# Altium integrated library ChargeControl2019.IntLib: 10 symbols
Pins are listed as number, name and electrical type; pins without a type are passive.

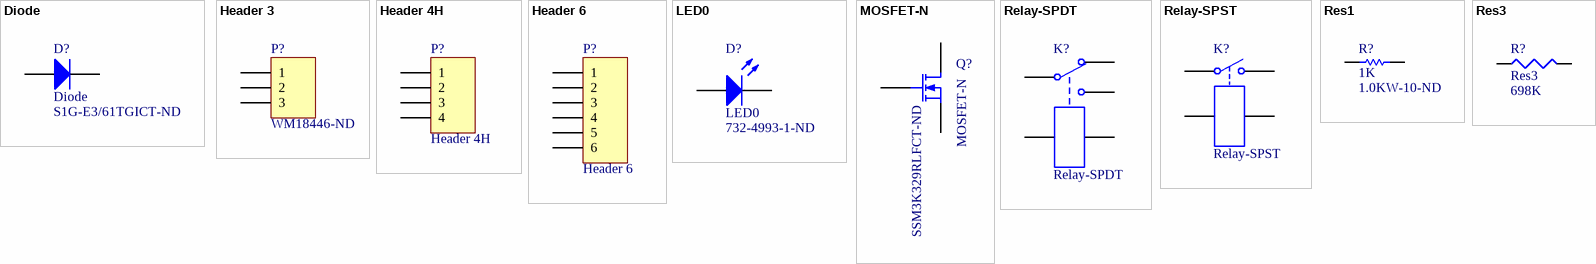
[diagram p0: symbols Diode to Res3]

## Diode
designator D?  Supplier Part Number 1: S1G-E3/61TGICT-ND
Switching diode; Published: 8-Jun-2000; LatestRevisionDate: 17-Jul-2002; LatestRevisionNote: Re-released for DXP Platform.; PackageVersion: Sep-1996; PackageReference: SMC; Publisher: Altium Limited; PackageDescription: DO-214-AB/SMC; 2 C-Bend Leads; Body 7.9 x 5.9 mm, inc. leads (LxW); Code_JEDEC: DO-214-AB; Supplier 1: Digi-Key
footprint DIODE SODFL100X48-2N (SODFL, 2-Leads, Body 0.60x1.00mm, IPC Medium Density 1SS413L3MCT-ND or 1SS413,L3M)
simulation model DIODE (Diode)
signal-integrity model Diode
footprint VISH-DO-214AC-SMA-2_N (Molded Diode, 2-Leads, Body 4.5x2.79mm, IPC Medium Density)
pins: 1 A, 2 K

## Header 3
designator P?  Supplier Part Number 1: WM18446-ND  (hidden comment: Header 3)
3 pos wire to board; LatestRevisionDate: 17-Jul-2002; LatestRevisionNote: Re-released for DXP Platform.; Publisher: Altium Limited; Supplier Part Number 2: WM18434-ND
footprint 3 Pos wire to board (A98085-ND)
signal-integrity model Connector
footprint Conn3pin
pins: 1, 2, 3

## Header 4H
designator P?
Header, 4-Pin, Right Angle; LatestRevisionDate: 17-Jul-2002; LatestRevisionNote: Re-released for DXP Platform.; Publisher: Altium Limited; Supplier Part Number 2: WM3701-ND; Supplier Part Number 1: WM21352-ND
footprint HDR1X4H (Connector; Header; 4 Position; Right Angle)
signal-integrity model Connector
footprint Conn4pin
pins: 1, 2, 3, 4

## Header 6
designator P?
Header, 6-Pin; LatestRevisionDate: 17-Jul-2002; LatestRevisionNote: Re-released for DXP Platform.; Publisher: Altium Limited
footprint HDR1X6 (Connector; Header; 6 Position)
signal-integrity model Connector
footprint Conn6pin
pins: 1, 2, 3, 4, 5, 6

## LED0
designator D?  Supplier Part Number 1: 732-4993-1-ND
Typical INFRARED GaAs LED; Published: 8-Jun-2000; LatestRevisionDate: 08-Jul-2005; LatestRevisionNote: Mech Layer 1 removed.; PackageReference: LED-0; Publisher: Altium Limited; PackageDescription: LED; 2 Leads; Supplier 1: Digi-Key
footprint LEDC3216X120NGRN
simulation model LED0 (Diode)
pins: 1 A, 2 K

## MOSFET-N
designator Q?  Supplier Part Number 1: SSM3K329RLFCT-ND
N-Channel MOSFET; Published: 8-Jun-2000; LatestRevisionDate: 17-Jul-2002; LatestRevisionNote: Re-released for DXP Platform.; PackageVersion: 1995/1996; PackageReference: E3; Publisher: Altium Limited; PackageDescription: TO, Flat Index; 3 In-Line, Axial Leads; Body Dia. 4.6mm; Lead Dia. 0.5 mm (max); Supplier 1: Digi-Key
footprint SOT23 (SOT23, 3-Leads, Body 2.90x2.45mm, Pitch 0.95mm, IPC Medium Density)
simulation model NMOS (MOSFET-N)
footprint SOT23-3
pins: 1 D, 2 G, 3 S

## Relay-SPDT
designator K?
Single-Pole Dual-Throw Relay; Published: 24-Mar-1999; LatestRevisionDate: 17-Jul-2002; LatestRevisionNote: Re-released for DXP Platform.; PackageReference: MODULE5B; Publisher: Altium Limited; Supplier Part Number 1: Z3076-ND
footprint G2RL14
simulation model SPDTRELAY (Spice Subcircuit)
pins: 1, 2, 3, 4, 5

## Relay-SPST
designator K?
Single-Pole Single-Throw Relay; Published: 24-Mar-1999; LatestRevisionDate: 17-Jul-2002; LatestRevisionNote: Re-released for DXP Platform.; PackageReference: MODULE4; Publisher: Altium Limited; Supplier Part Number 1: Z3080-ND
footprint MODULE4 (DIP; 4 Round Pins; Row Space 27.94 mm; Pitch 15.24 mm)
simulation model SPSTRELAY (Spice Subcircuit)
footprint G2RL1ADC12
pins: 1, 3, 4, 5

## Res1
designator R?  value 1K  Supplier Part Number 1: 1.0KW-10-ND  (hidden comment: Res1)
Resistor; Published: 8-Jun-2000; LatestRevisionDate: 17-Jul-2002; LatestRevisionNote: Re-released for DXP Platform.; PackageReference: AXIAL-0.3; Publisher: Altium Limited; PackageDescription: Axial Device, Thru-Hole; 2 Leads; 0.3 in Pin Spacing
footprint Res 1k 10W (1.0KW-10-ND)
simulation model RESISTOR (Resistor)
signal-integrity model Res
footprint YAG_SQP10
pins: 1, 2

## Res3
designator R?  value 698K
Resistor; Published: 8-Jun-2000; LatestRevisionDate: 29-May-2009; LatestRevisionNote: IPC-7351 Footprint Added.; PackageReference: J1-0603; Publisher: Altium Limited; PackageDescription: Chip Resistor
footprint J1-0603 (Chip Resistor, Body 1.6x0.8mm, IPC High Density)
footprint 14-1210 (Chip Resistor, Body 3.2x2.5mm, IPC High Density)
footprint 12Z-2010 (Chip Resistor, Body 5.0x2.5mm, IPC High Density)
footprint RESC6332 (Chip Resistor, Body 6.3x3.2mm, IPC High Density)
simulation model RESISTOR (Resistor)
signal-integrity model Res
footprint RESC3216X60N
pins: 1, 2